# Altium integrated library Cypress PSoC 4.IntLib: 8 symbols
Pins are listed as number, name and electrical type; pins without a type are passive.

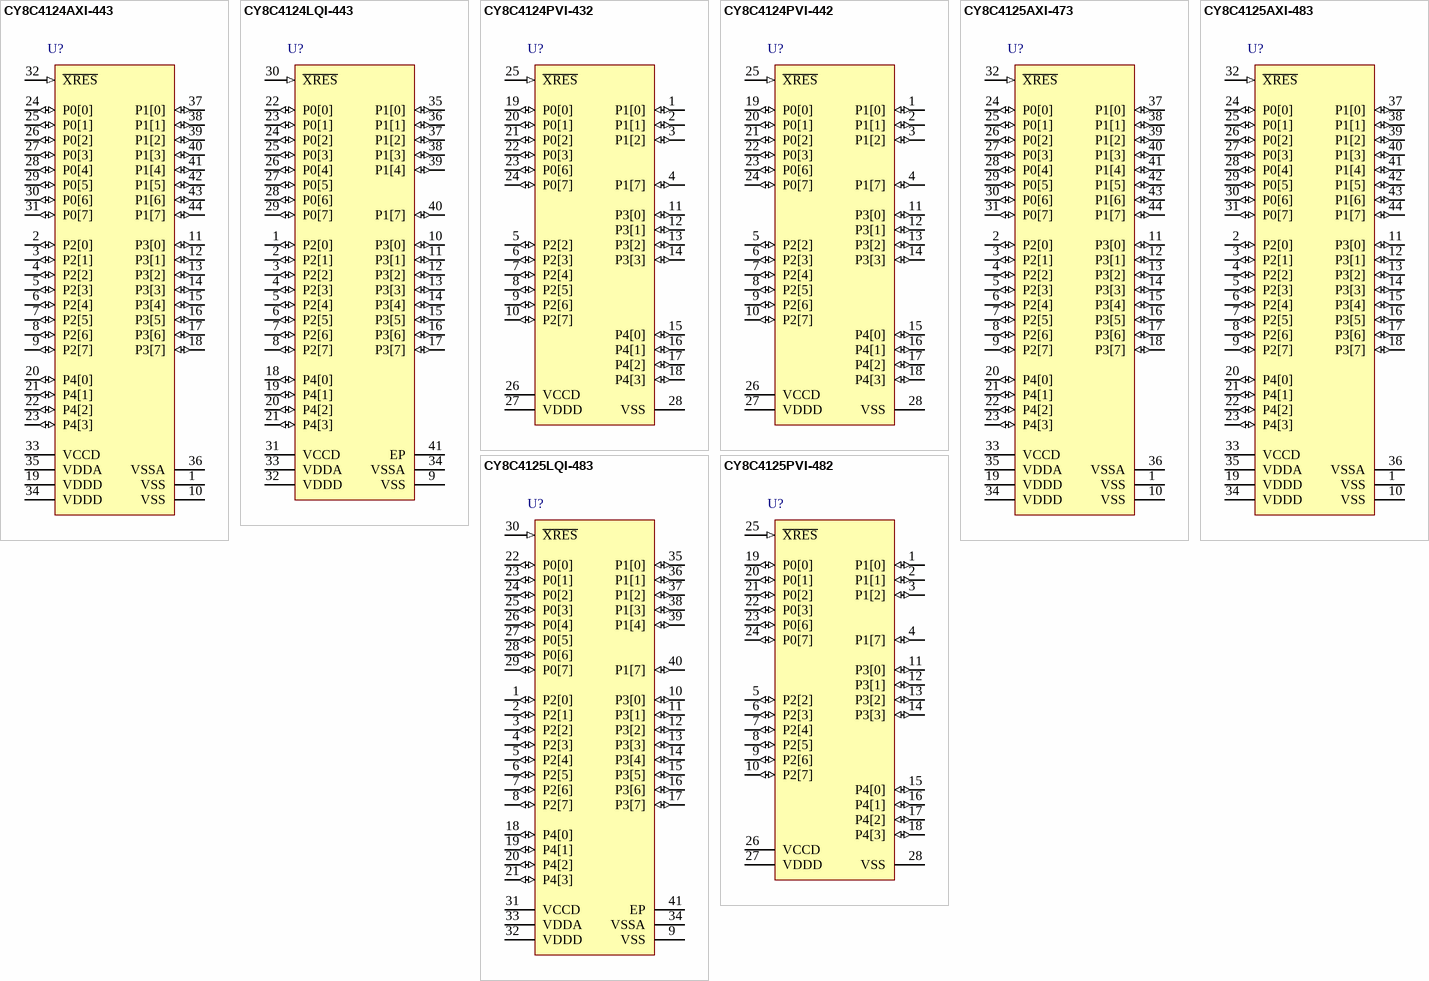
[diagram p0: symbols CY8C4124AXI-443 to CY8C4125PVI-482]

## CY8C4124AXI-443
designator U?
PSoC Programmable System-on-Chip, 16 KB Flash, 36 GPIOs, 1.71 to 5.5 V, 44-Pin TQFP (AX44); Manufacturer: Cypress; PartNumber: CY8C4124AXI-443; CPU Core: ARM Cortex-M0; Flash (KB): 16; Max. Operating Frequency (MHz): 24; Max. Operating Voltage (V): 5.5; Min. Operating Voltage (V): 1.71; No. of GPIOs: 36; No. of Op Amps: 2; SRAM (KB): 4; DatasheetVersion: Rev. *B; PackageVersion: Rev. *E; PackageReference: AX44; PackageDescription: 44-pin TQFP, Body 12 x 12 mm, Pitch 0.8 mm; Max. Operating Temp. (degreesC): 85; Min. Operating Temp. (degreesC): -40; RoHS: Pb-Free; Mounting Technology: Surface Mount; Code_JEDEC: MS-026; ComponentLink1Description: Manufacturer URL; ComponentLink1URL: http://www.cypress.com/; ComponentLink2Description: Datasheet; ComponentLink2URL: http://www.cypress.com/?docID=46324; ComponentLink3Description: Package Specification; ComponentLink3URL: http://www.cypress.com/?docID=46324
footprint CYP-AX44-51-85064_N (TQFP, 44-Leads, Body 10x10mm, Pitch 0.8mm, IPC Medium Density)
footprint CYP-AX44-51-85064_L (TQFP, 44-Leads, Body 10x10mm, Pitch 0.8mm, IPC High Density)
footprint CYP-AX44-51-85064_M (TQFP, 44-Leads, Body 10x10mm, Pitch 0.8mm, IPC Low Density)
pins: 1 VSS (power) "Digital Ground", 2 P2[0] (io), 3 P2[1] (io), 4 P2[2] (io), 5 P2[3] (io), 6 P2[4] (io), 7 P2[5] (io), 8 P2[6] (io), 9 P2[7] (io), 10 VSS (power) "Ground pin", 11 P3[0] (io), 12 P3[1] (io), 13 P3[2] (io), 14 P3[3] (io), 15 P3[4] (io), 16 P3[5] (io), 17 P3[6] (io), 18 P3[7] (io), 19 VDDD (power) "Digital Supply, 1.8 - 5.5 V", 20 P4[0] (io), 21 P4[1] (io), 22 P4[2] (io), 23 P4[3] (io), 24 P0[0] (io), 25 P0[1] (io), 26 P0[2] (io), 27 P0[3] (io), 28 P0[4] (io), 29 P0[5] (io), 30 P0[6] (io), 31 P0[7] (io), 32 ~{XRES} (in) "Chip reset, active low", 33 VCCD (power) "Regulated supply, connect to 1 uF cap or 1.8 V", 34 VDDD (power) "Digital Supply, 1.8 - 5.5 V", 35 VDDA (power) "Analog Supply, 1.8 - 5.5 V, equal to VDDD", 36 VSSA (power) "Analog Ground", 37 P1[0] (io), 38 P1[1] (io), 39 P1[2] (io), 40 P1[3] (io), 41 P1[4] (io), 42 P1[5] (io), 43 P1[6] (io), 44 P1[7] (io)

## CY8C4124LQI-443
designator U?
PSoC Programmable System-on-Chip, 16 KB Flash, 34 GPIOs, 1.71 to 5.5 V, 40-Pin QFN (LQ40); Manufacturer: Cypress; PartNumber: CY8C4124LQI-443; CPU Core: ARM Cortex-M0; Flash (KB): 16; Max. Operating Frequency (MHz): 24; Max. Operating Voltage (V): 5.5; Min. Operating Voltage (V): 1.71; No. of GPIOs: 34; No. of Op Amps: 2; SRAM (KB): 4; DatasheetVersion: Rev. *B; PackageReference: LQ40; PackageDescription: 40-pin QFN Package Outline, Body 6 x 6 mm, Pitch 0.5 mm; Supplier 1: Digi-Key; Supplier Part Number 1: CY8C4124LQI-443-ND; Supplier 2: Newark; Supplier Part Number 2: 08X4484; Supplier 3: Mouser; Supplier Part Number 3: 727-CY8C4124LQI-443; Max. Operating Temp. (degreesC): 85; Min. Operating Temp. (degreesC): -40; RoHS: Pb-Free; Mounting Technology: Surface Mount; Code_JEDEC: MO-248; ComponentLink1Description: Manufacturer URL; ComponentLink1URL: http://www.cypress.com/; ComponentLink2Description: Datasheet; ComponentLink2URL: http://www.cypress.com/?docID=46324; ComponentLink3Description: Package Specification; ComponentLink3URL: http://www.cypress.com/?docID=46324
footprint CYP-LQ40_N (QFN, 40-Leads, Body 6.1x6.1mm, Pitch 0.5mm, Thermal Pad 4.6x4.6mm, IPC Medium Density)
footprint CYP-LQ40_L (QFN, 40-Leads, Body 6.1x6.1mm, Pitch 0.5mm, Thermal Pad 4.6x4.6mm, IPC High Density)
footprint CYP-LQ40_M (QFN, 40-Leads, Body 6.1x6.1mm, Pitch 0.5mm, Thermal Pad 4.6x4.6mm, IPC Low Density)
pins: 1 P2[0] (io), 2 P2[1] (io), 3 P2[2] (io), 4 P2[3] (io), 5 P2[4] (io), 6 P2[5] (io), 7 P2[6] (io), 8 P2[7] (io), 9 VSS (power) "Ground pin", 10 P3[0] (io), 11 P3[1] (io), 12 P3[2] (io), 13 P3[3] (io), 14 P3[4] (io), 15 P3[5] (io), 16 P3[6] (io), 17 P3[7] (io), 18 P4[0] (io), 19 P4[1] (io), 20 P4[2] (io), 21 P4[3] (io), 22 P0[0] (io), 23 P0[1] (io), 24 P0[2] (io), 25 P0[3] (io), 26 P0[4] (io), 27 P0[5] (io), 28 P0[6] (io), 29 P0[7] (io), 30 ~{XRES} (in) "Chip reset, active low", 31 VCCD (power) "Regulated supply, connect to 1 uF cap or 1.8 V", 32 VDDD (power) "Digital Supply, 1.8 - 5.5 V", 33 VDDA (power) "Analog Supply, 1.8 - 5.5 V, equal to VDDD", 34 VSSA (power) "Analog Ground", 35 P1[0] (io), 36 P1[1] (io), 37 P1[2] (io), 38 P1[3] (io), 39 P1[4] (io), 40 P1[7] (io), 41 EP (power)

## CY8C4124PVI-432
designator U?
PSoC Programmable System-on-Chip, 16 KB Flash, 24 GPIOs, 1.71 to 5.5 V, 28-Pin SSOP (PV28); Manufacturer: Cypress; PartNumber: CY8C4124PVI-432; CPU Core: ARM Cortex-M0; Flash (KB): 16; Max. Operating Frequency (MHz): 24; Max. Operating Voltage (V): 5.5; Min. Operating Voltage (V): 1.71; No. of Op Amps: 1; SRAM (KB): 4; DatasheetVersion: Rev. *B; PackageVersion: Rev. *E; PackageReference: PV28; PackageDescription: 28-Pin Super Small Outline Package, Body 10.2 x 5.3 mm, Pitch 0.65 mm; Max. Operating Temp. (degreesC): 85; Min. Operating Temp. (degreesC): -40; No. of GPIOs: 24; RoHS: Pb-Free; Mounting Technology: Surface Mount; ComponentLink1Description: Manufacturer URL; ComponentLink1URL: http://www.cypress.com/; ComponentLink2Description: Datasheet; ComponentLink2URL: http://www.cypress.com/?docID=46324; ComponentLink3Description: Package Specification; ComponentLink3URL: http://www.cypress.com/?docID=47660
footprint CYP-PV28_N (SOP, 28-Leads, Body 10.2x5.3mm, Pitch 0.65mm, IPC Medium Density)
footprint CYP-PV28_L (SOP, 28-Leads, Body 10.2x5.3mm, Pitch 0.65mm, IPC High Density)
footprint CYP-PV28_M (SOP, 28-Leads, Body 10.2x5.3mm, Pitch 0.65mm, IPC Low Density)
pins: 1 P1[0] (io) "Port 1 Pin 0: gpio, lcd, csd, ctb, pwm", 2 P1[1] (io) "Port 1 Pin 1: gpio, lcd, csd, ctb, pwm", 3 P1[2] (io) "Port 1 Pin 2: gpio, lcd, csd, ctb, pwm", 4 P1[7] (io) "Port 1 Pin 7: gpio, lcd, csd, ext_ref", 5 P2[2] (io) "Port 2 Pin 2: gpio, lcd, csd, sarmux", 6 P2[3] (io) "Port 2 Pin 3: gpio, lcd, csd, sarmux", 7 P2[4] (io) "Port 2 Pin 4: gpio, lcd, csd, sarmux, pwm", 8 P2[5] (io) "Port 2 Pin 5: gpio, lcd, csd, sarmux, pwm", 9 P2[6] (io) "Port 2 Pin 6: gpio, lcd, csd, sarmux, pwm", 10 P2[7] (io) "Port 2 Pin 7: gpio, lcd, csd, sarmux, pwm", 11 P3[0] (io) "Port 3 Pin 0: gpio, lcd, csd, pwm, scb1", 12 P3[1] (io) "Port 3 Pin 1: gpio, lcd, csd, pwm, scb1", 13 P3[2] (io) "Port 3 Pin 2: gpio, lcd, csd, pwm, scb1, swd", 14 P3[3] (io) "Port 3 Pin 3: gpio, lcd, csd, pwm, scb1, swd", 15 P4[0] (io) "Port 4 Pin 0: gpio, lcd, csd, scb0", 16 P4[1] (io) "Port 4 Pin 1: gpio, lcd, csd, scb0", 17 P4[2] (io) "Port 4 Pin 2: gpio, lcd, csd, scb0", 18 P4[3] (io) "Port 4 Pin 3: gpio, lcd, csd, scb0", 19 P0[0] (io) "Port 0 Pin 0: gpio, lcd, csd, scb0, comp", 20 P0[1] (io) "Port 0 Pin 1: gpio, lcd, csd, scb0, comp", 21 P0[2] (io) "Port 0 Pin 2: gpio, lcd, csd, scb0, comp", 22 P0[3] (io) "Port 0 Pin 3: gpio, lcd, csd, comp", 23 P0[6] (io) "Port 0 Pin 6: gpio, lcd, csd, scb1, ext_clk", 24 P0[7] (io) "Port 0 Pin 7: gpio, lcd, csd, scb1, wakeup", 25 ~{XRES} (in) "Chip reset, active low", 26 VCCD (power) "Regulated supply, connect to 1 uF cap or 1.8 V", 27 VDDD (power) "Digital Supply, 1.8 - 5.5 V", 28 VSS (power) "Analog Ground"

## CY8C4124PVI-442
designator U?
PSoC Programmable System-on-Chip, 16 KB Flash, 24 GPIOs, 1.71 to 5.5 V, 28-Pin SSOP (PV28), Tube; Manufacturer: Cypress; PartNumber: CY8C4124PVI-442; CPU Core: ARM Cortex-M0; Flash (KB): 16; Max. Operating Frequency (MHz): 24; Max. Operating Voltage (V): 5.5; Min. Operating Voltage (V): 1.71; No. of Op Amps: 1; SRAM (KB): 4; DatasheetVersion: Rev. *B; PackageVersion: Rev. *E; PackageReference: PV28; PackageDescription: 28-Pin Super Small Outline Package, Body 10.2 x 5.3 mm, Pitch 0.65 mm; Supplier 1: Digi-Key; Supplier Part Number 1: CY8C4124PVI-442-ND; Supplier 2: Newark; Supplier Part Number 2: 24X0952; Supplier 3: Mouser; Supplier Part Number 3: 727-CY8C4124PVI-442; Max. Operating Temp. (degreesC): 85; Min. Operating Temp. (degreesC): -40; No. of GPIOs: 24; Packing: Tube; RoHS: Pb-Free; Mounting Technology: Surface Mount; ComponentLink1Description: Manufacturer URL; ComponentLink1URL: http://www.cypress.com/; ComponentLink2Description: Datasheet; ComponentLink2URL: http://www.cypress.com/?docID=46324; ComponentLink3Description: Package Specification; ComponentLink3URL: http://www.cypress.com/?docID=47660
footprint CYP-PV28_N (SOP, 28-Leads, Body 10.2x5.3mm, Pitch 0.65mm, IPC Medium Density)
footprint CYP-PV28_L (SOP, 28-Leads, Body 10.2x5.3mm, Pitch 0.65mm, IPC High Density)
footprint CYP-PV28_M (SOP, 28-Leads, Body 10.2x5.3mm, Pitch 0.65mm, IPC Low Density)
pins: 1 P1[0] (io) "Port 1 Pin 0: gpio, lcd, csd, ctb, pwm", 2 P1[1] (io) "Port 1 Pin 1: gpio, lcd, csd, ctb, pwm", 3 P1[2] (io) "Port 1 Pin 2: gpio, lcd, csd, ctb, pwm", 4 P1[7] (io) "Port 1 Pin 7: gpio, lcd, csd, ext_ref", 5 P2[2] (io) "Port 2 Pin 2: gpio, lcd, csd, sarmux", 6 P2[3] (io) "Port 2 Pin 3: gpio, lcd, csd, sarmux", 7 P2[4] (io) "Port 2 Pin 4: gpio, lcd, csd, sarmux, pwm", 8 P2[5] (io) "Port 2 Pin 5: gpio, lcd, csd, sarmux, pwm", 9 P2[6] (io) "Port 2 Pin 6: gpio, lcd, csd, sarmux, pwm", 10 P2[7] (io) "Port 2 Pin 7: gpio, lcd, csd, sarmux, pwm", 11 P3[0] (io) "Port 3 Pin 0: gpio, lcd, csd, pwm, scb1", 12 P3[1] (io) "Port 3 Pin 1: gpio, lcd, csd, pwm, scb1", 13 P3[2] (io) "Port 3 Pin 2: gpio, lcd, csd, pwm, scb1, swd", 14 P3[3] (io) "Port 3 Pin 3: gpio, lcd, csd, pwm, scb1, swd", 15 P4[0] (io) "Port 4 Pin 0: gpio, lcd, csd, scb0", 16 P4[1] (io) "Port 4 Pin 1: gpio, lcd, csd, scb0", 17 P4[2] (io) "Port 4 Pin 2: gpio, lcd, csd, scb0", 18 P4[3] (io) "Port 4 Pin 3: gpio, lcd, csd, scb0", 19 P0[0] (io) "Port 0 Pin 0: gpio, lcd, csd, scb0, comp", 20 P0[1] (io) "Port 0 Pin 1: gpio, lcd, csd, scb0, comp", 21 P0[2] (io) "Port 0 Pin 2: gpio, lcd, csd, scb0, comp", 22 P0[3] (io) "Port 0 Pin 3: gpio, lcd, csd, comp", 23 P0[6] (io) "Port 0 Pin 6: gpio, lcd, csd, scb1, ext_clk", 24 P0[7] (io) "Port 0 Pin 7: gpio, lcd, csd, scb1, wakeup", 25 ~{XRES} (in) "Chip reset, active low", 26 VCCD (power) "Regulated supply, connect to 1 uF cap or 1.8 V", 27 VDDD (power) "Digital Supply, 1.8 - 5.5 V", 28 VSS (power) "Analog Ground"

## CY8C4125AXI-473
designator U?
PSoC Programmable System-on-Chip, 32 KB Flash, 36 GPIOs, 1.71 to 5.5 V, 44-Pin TQFP (AX44); Manufacturer: Cypress; PartNumber: CY8C4125AXI-473; CPU Core: ARM Cortex-M0; Flash (KB): 32; Max. Operating Frequency (MHz): 24; Max. Operating Voltage (V): 5.5; Min. Operating Voltage (V): 1.71; No. of GPIOs: 36; No. of Op Amps: 2; SRAM (KB): 4; DatasheetVersion: Rev. *B; PackageVersion: Rev. *E; PackageReference: AX44; PackageDescription: 44-pin TQFP, Body 12 x 12 mm, Pitch 0.8 mm; Max. Operating Temp. (degreesC): 85; Min. Operating Temp. (degreesC): -40; RoHS: Pb-Free; Mounting Technology: Surface Mount; Code_JEDEC: MS-026; ComponentLink1Description: Manufacturer URL; ComponentLink1URL: http://www.cypress.com/; ComponentLink2Description: Datasheet; ComponentLink2URL: http://www.cypress.com/?docID=46324; ComponentLink3Description: Package Specification; ComponentLink3URL: http://www.cypress.com/?docID=46324
footprint CYP-AX44-51-85064_N (TQFP, 44-Leads, Body 10x10mm, Pitch 0.8mm, IPC Medium Density)
footprint CYP-AX44-51-85064_L (TQFP, 44-Leads, Body 10x10mm, Pitch 0.8mm, IPC High Density)
footprint CYP-AX44-51-85064_M (TQFP, 44-Leads, Body 10x10mm, Pitch 0.8mm, IPC Low Density)
pins: 1 VSS (power) "Digital Ground", 2 P2[0] (io), 3 P2[1] (io), 4 P2[2] (io), 5 P2[3] (io), 6 P2[4] (io), 7 P2[5] (io), 8 P2[6] (io), 9 P2[7] (io), 10 VSS (power) "Ground pin", 11 P3[0] (io), 12 P3[1] (io), 13 P3[2] (io), 14 P3[3] (io), 15 P3[4] (io), 16 P3[5] (io), 17 P3[6] (io), 18 P3[7] (io), 19 VDDD (power) "Digital Supply, 1.8 - 5.5 V", 20 P4[0] (io), 21 P4[1] (io), 22 P4[2] (io), 23 P4[3] (io), 24 P0[0] (io), 25 P0[1] (io), 26 P0[2] (io), 27 P0[3] (io), 28 P0[4] (io), 29 P0[5] (io), 30 P0[6] (io), 31 P0[7] (io), 32 ~{XRES} (in) "Chip reset, active low", 33 VCCD (power) "Regulated supply, connect to 1 uF cap or 1.8 V", 34 VDDD (power) "Digital Supply, 1.8 - 5.5 V", 35 VDDA (power) "Analog Supply, 1.8 - 5.5 V, equal to VDDD", 36 VSSA (power) "Analog Ground", 37 P1[0] (io), 38 P1[1] (io), 39 P1[2] (io), 40 P1[3] (io), 41 P1[4] (io), 42 P1[5] (io), 43 P1[6] (io), 44 P1[7] (io)

## CY8C4125AXI-483
designator U?
PSoC Programmable System-on-Chip, 32 KB Flash, 36 GPIOs, 1.71 to 5.5 V, 44-Pin TQFP (AX44), Tray; Manufacturer: Cypress; PartNumber: CY8C4125AXI-483; CPU Core: ARM Cortex-M0; Flash (KB): 32; Max. Operating Frequency (MHz): 24; Max. Operating Voltage (V): 5.5; Min. Operating Voltage (V): 1.71; No. of GPIOs: 36; No. of Op Amps: 2; SRAM (KB): 4; DatasheetVersion: Rev. *B; PackageVersion: Rev. *E; PackageReference: AX44; PackageDescription: 44-pin TQFP, Body 12 x 12 mm, Pitch 0.8 mm; Supplier 1: Digi-Key; Supplier Part Number 1: CY8C4125AXI-483-ND; Supplier 2: Farnell; Supplier Part Number 2: 2311405; Supplier 3: Newark; Supplier Part Number 3: 86W0163; Supplier 4: Mouser; Supplier Part Number 4: 727-CY8C4125AXI-483; Max. Operating Temp. (degreesC): 85; Min. Operating Temp. (degreesC): -40; Packing: Tray; RoHS: Pb-Free; Mounting Technology: Surface Mount; Code_JEDEC: MS-026; ComponentLink1Description: Manufacturer URL; ComponentLink1URL: http://www.cypress.com/; ComponentLink2Description: Datasheet; ComponentLink2URL: http://www.cypress.com/?docID=46324; ComponentLink3Description: Package Specification; ComponentLink3URL: http://www.cypress.com/?docID=46324
footprint CYP-AX44-51-85064_N (TQFP, 44-Leads, Body 10x10mm, Pitch 0.8mm, IPC Medium Density)
footprint CYP-AX44-51-85064_L (TQFP, 44-Leads, Body 10x10mm, Pitch 0.8mm, IPC High Density)
footprint CYP-AX44-51-85064_M (TQFP, 44-Leads, Body 10x10mm, Pitch 0.8mm, IPC Low Density)
pins: 1 VSS (power) "Digital Ground", 2 P2[0] (io), 3 P2[1] (io), 4 P2[2] (io), 5 P2[3] (io), 6 P2[4] (io), 7 P2[5] (io), 8 P2[6] (io), 9 P2[7] (io), 10 VSS (power) "Ground pin", 11 P3[0] (io), 12 P3[1] (io), 13 P3[2] (io), 14 P3[3] (io), 15 P3[4] (io), 16 P3[5] (io), 17 P3[6] (io), 18 P3[7] (io), 19 VDDD (power) "Digital Supply, 1.8 - 5.5 V", 20 P4[0] (io), 21 P4[1] (io), 22 P4[2] (io), 23 P4[3] (io), 24 P0[0] (io), 25 P0[1] (io), 26 P0[2] (io), 27 P0[3] (io), 28 P0[4] (io), 29 P0[5] (io), 30 P0[6] (io), 31 P0[7] (io), 32 ~{XRES} (in) "Chip reset, active low", 33 VCCD (power) "Regulated supply, connect to 1 uF cap or 1.8 V", 34 VDDD (power) "Digital Supply, 1.8 - 5.5 V", 35 VDDA (power) "Analog Supply, 1.8 - 5.5 V, equal to VDDD", 36 VSSA (power) "Analog Ground", 37 P1[0] (io), 38 P1[1] (io), 39 P1[2] (io), 40 P1[3] (io), 41 P1[4] (io), 42 P1[5] (io), 43 P1[6] (io), 44 P1[7] (io)

## CY8C4125LQI-483
designator U?
PSoC Programmable System-on-Chip, 32 KB Flash, 34 GPIOs, 1.71 to 5.5 V, 40-Pin QFN (LQ40); Manufacturer: Cypress; PartNumber: CY8C4125LQI-483; CPU Core: ARM Cortex-M0; Flash (KB): 32; Max. Operating Frequency (MHz): 24; Max. Operating Voltage (V): 5.5; Min. Operating Voltage (V): 1.71; No. of GPIOs: 34; No. of Op Amps: 2; SRAM (KB): 4; DatasheetVersion: Rev. *B; PackageReference: LQ40; PackageDescription: 40-pin QFN Package Outline, Body 6 x 6 mm, Pitch 0.5 mm; Supplier 1: Digi-Key; Supplier Part Number 1: CY8C4125LQI-483-ND; Supplier 2: Farnell; Supplier Part Number 2: 2311404; Supplier 3: Newark; Supplier Part Number 3: 86W0162; Supplier 4: Mouser; Supplier Part Number 4: 727-CY8C4125LQI-483; Max. Operating Temp. (degreesC): 85; Min. Operating Temp. (degreesC): -40; RoHS: Pb-Free; Mounting Technology: Surface Mount; Code_JEDEC: MO-248; ComponentLink1Description: Manufacturer URL; ComponentLink1URL: http://www.cypress.com/; ComponentLink2Description: Datasheet; ComponentLink2URL: http://www.cypress.com/?docID=46324; ComponentLink3Description: Package Specification; ComponentLink3URL: http://www.cypress.com/?docID=46324
footprint CYP-LQ40_N (QFN, 40-Leads, Body 6.1x6.1mm, Pitch 0.5mm, Thermal Pad 4.6x4.6mm, IPC Medium Density)
footprint CYP-LQ40_L (QFN, 40-Leads, Body 6.1x6.1mm, Pitch 0.5mm, Thermal Pad 4.6x4.6mm, IPC High Density)
footprint CYP-LQ40_M (QFN, 40-Leads, Body 6.1x6.1mm, Pitch 0.5mm, Thermal Pad 4.6x4.6mm, IPC Low Density)
pins: 1 P2[0] (io), 2 P2[1] (io), 3 P2[2] (io), 4 P2[3] (io), 5 P2[4] (io), 6 P2[5] (io), 7 P2[6] (io), 8 P2[7] (io), 9 VSS (power) "Ground pin", 10 P3[0] (io), 11 P3[1] (io), 12 P3[2] (io), 13 P3[3] (io), 14 P3[4] (io), 15 P3[5] (io), 16 P3[6] (io), 17 P3[7] (io), 18 P4[0] (io), 19 P4[1] (io), 20 P4[2] (io), 21 P4[3] (io), 22 P0[0] (io), 23 P0[1] (io), 24 P0[2] (io), 25 P0[3] (io), 26 P0[4] (io), 27 P0[5] (io), 28 P0[6] (io), 29 P0[7] (io), 30 ~{XRES} (in) "Chip reset, active low", 31 VCCD (power) "Regulated supply, connect to 1 uF cap or 1.8 V", 32 VDDD (power) "Digital Supply, 1.8 - 5.5 V", 33 VDDA (power) "Analog Supply, 1.8 - 5.5 V, equal to VDDD", 34 VSSA (power) "Analog Ground", 35 P1[0] (io), 36 P1[1] (io), 37 P1[2] (io), 38 P1[3] (io), 39 P1[4] (io), 40 P1[7] (io), 41 EP (power)

## CY8C4125PVI-482
designator U?
PSoC Programmable System-on-Chip, 32 KB Flash, 24 GPIOs, 1.71 to 5.5 V, 28-Pin SSOP (PV28), Tube; Manufacturer: Cypress; PartNumber: CY8C4125PVI-482; CPU Core: ARM Cortex-M0; Flash (KB): 32; Max. Operating Frequency (MHz): 24; Max. Operating Voltage (V): 5.5; Min. Operating Voltage (V): 1.71; No. of Op Amps: 1; SRAM (KB): 4; DatasheetVersion: Rev. *B; PackageVersion: Rev. *E; PackageReference: PV28; PackageDescription: 28-Pin Super Small Outline Package, Body 10.2 x 5.3 mm, Pitch 0.65 mm; Supplier 1: Digi-Key; Supplier Part Number 1: CY8C4125PVI-482-ND; Supplier 2: Farnell; Supplier Part Number 2: 2311403; Supplier 3: Newark; Supplier Part Number 3: 86W0161; Supplier 4: Newark; Supplier Part Number 4: 85W2955; Supplier 5: Mouser; Supplier Part Number 5: 727-CY8C4125PVI-482; Max. Operating Temp. (degreesC): 85; Min. Operating Temp. (degreesC): -40; No. of GPIOs: 24; Packing: Tube; RoHS: Pb-Free; Mounting Technology: Surface Mount; ComponentLink1Description: Manufacturer URL; ComponentLink1URL: http://www.cypress.com/; ComponentLink2Description: Datasheet; ComponentLink2URL: http://www.cypress.com/?docID=46324; ComponentLink3Description: Package Specification; ComponentLink3URL: http://www.cypress.com/?docID=47660
footprint CYP-PV28_N (SOP, 28-Leads, Body 10.2x5.3mm, Pitch 0.65mm, IPC Medium Density)
footprint CYP-PV28_L (SOP, 28-Leads, Body 10.2x5.3mm, Pitch 0.65mm, IPC High Density)
footprint CYP-PV28_M (SOP, 28-Leads, Body 10.2x5.3mm, Pitch 0.65mm, IPC Low Density)
pins: 1 P1[0] (io), 2 P1[1] (io), 3 P1[2] (io), 4 P1[7] (io), 5 P2[2] (io), 6 P2[3] (io), 7 P2[4] (io), 8 P2[5] (io), 9 P2[6] (io), 10 P2[7] (io), 11 P3[0] (io), 12 P3[1] (io), 13 P3[2] (io), 14 P3[3] (io), 15 P4[0] (io), 16 P4[1] (io), 17 P4[2] (io), 18 P4[3] (io), 19 P0[0] (io), 20 P0[1] (io), 21 P0[2] (io), 22 P0[3] (io), 23 P0[6] (io), 24 P0[7] (io), 25 ~{XRES} (in) "Chip reset, active low", 26 VCCD (power) "Regulated supply, connect to 1 uF cap or 1.8 V", 27 VDDD (power) "Digital Supply, 1.8 - 5.5 V", 28 VSS (power) "Analog Ground"